# EAGLE library part CON-DB9-FEMALE (library steves)
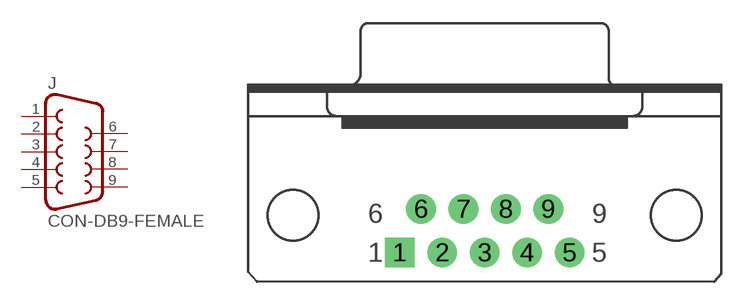
[diagram p28: symbol with the pads of CON-DB-9-F-RA-GREATWALL; footprint CON-DB-9-F-RA-GREATWALL]

Designator prefix J

## CON-DB9-FEMALERA-GREATWALL  [CON-DB-9-F-RA-GREATWALL]
1  1  pas
2  2  pas
3  3  pas
4  4  pas
5  5  pas
6  6  pas
7  7  pas
8  8  pas
9  9  pas

## Footprint CON-DB-9-F-RA-GREATWALL (pad centres in mm)
drill 0.9 pad 1.93 square: 1 -5.54,0
drill 0.9 pad 1.93: 2 -2.77,0; 3 0,0; 4 2.77,0; 5 5.54,0; 6 -4.155,2.84; 7 -1.385,2.84; 8 1.385,2.84; 9 4.155,2.84
hole 3.2 at 12.5,2.42
hole 3.2 at -12.5,2.42